# Altium footprint library switchingRegulator.PcbLib: 1 footprints
Each footprint in its own frame and in the unit in brackets; x right, y up, seen from the top. Pads: shape width x height; smd on the part's side, far side on the other; paste and mask are expansions set on the pad; w line width, h text height; cw(c..) or ccw(c..) is an arc to the next point about the centre after c.
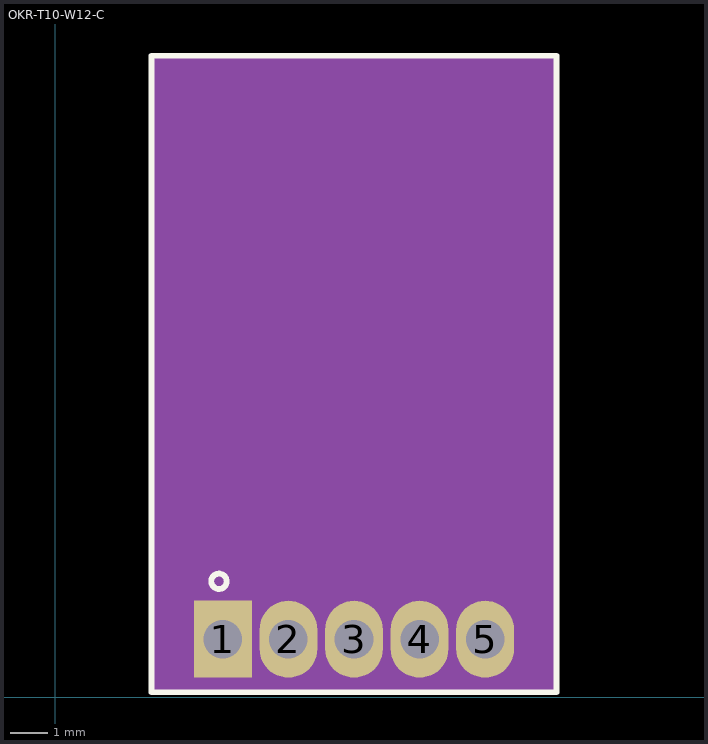
[diagram p0: the footprint, top view; thin cyan lines are the x and y axes]

## OKR-T10-W12-C [mil] "DC DC CONVERTER 0.591-6V 50W"
pads (5):
  rect 60x80 hole 40 mask+0: 1(174,60)
  oval 60x80 hole 40 mask+0: 2(242,60) 3(310,60) 4(378,60) 5(446,60)
Top Overlay:
  circle w6: c170,120 r8
  lines w6: 100,5 100,665 520,665 520,5 100,5
Mechanical 15:
  region: 515,660 105,660 105,8 515,8
  lines w6: 105,8 515,8 515,660 105,660 105,8
3D body "DCDC converter.STEP": height 310.88, standoff -114.71, extent 105,10 515,660